# Altium footprint library Motion Controller.PcbLib: 208 footprints (part 3 of 13)
Each footprint in its own frame and in the unit in brackets; x right, y up, seen from the top. Pads: shape width x height; smd on the part's side, far side on the other; paste and mask are expansions set on the pad; w line width, h text height; cw(c..) or ccw(c..) is an arc to the next point about the centre after c.
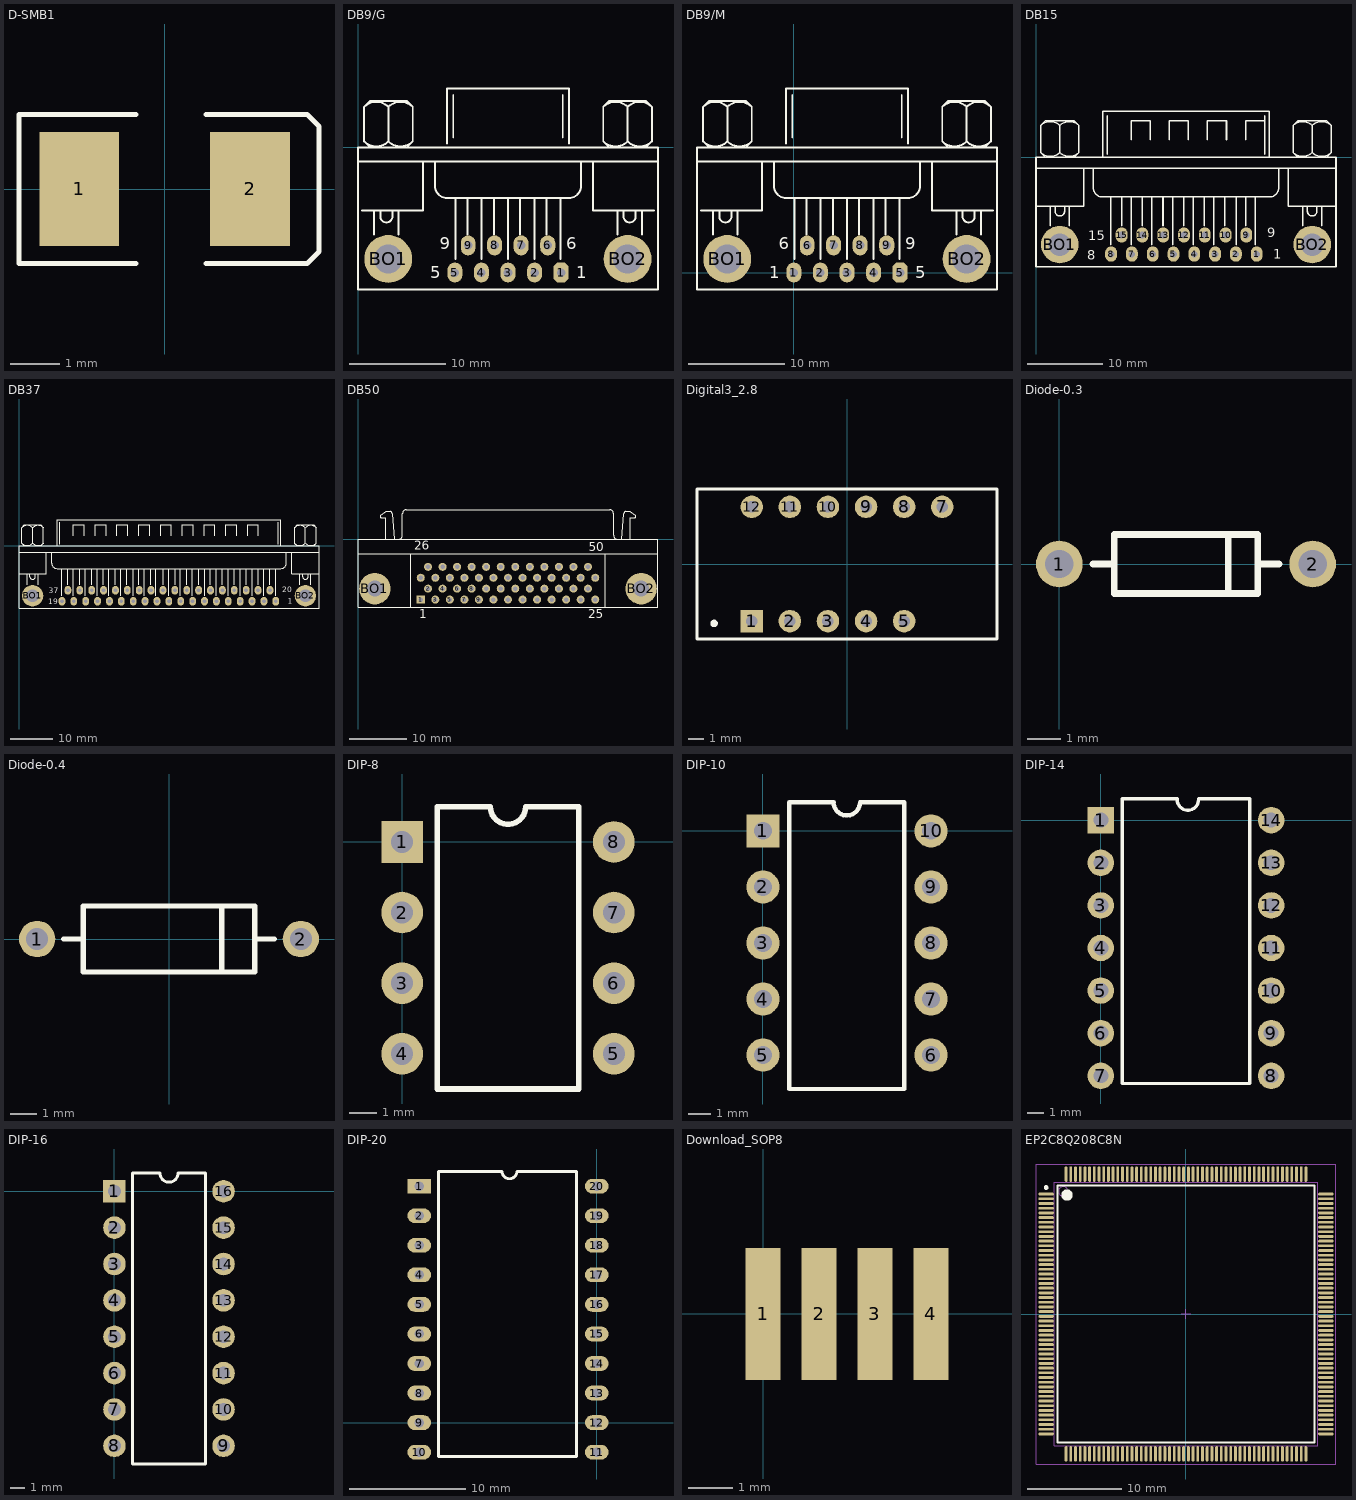
[diagram p2: the footprints below, top view; thin cyan lines are the x and y axes]

## D-SMB1 [mil]
pads (2):
  rect 62.99x90 smd: 1(-67.5,0) 2(67.5,0)
Top Overlay:
  lines w3.94: -22.5,-59.06 -115.16,-59.06 -115.16,59.06 -22.5,59.06 ; 32.5,-59.06 112.5,-59.06 122.05,-49.51 122.05,49.51 112.5,59.06 32.5,59.06

## DB9/G [mil]
pads (11):
  oct 62x82 hole 35: 1(835,-514.17)
  oval 62x82 hole 35: 2(725.83,-514.17) 3(616.67,-514.17) 4(507.5,-514.17) 5(398.33,-514.17) 6(780,-402.5) 7(670.83,-402.5) 8(561.67,-402.5)
  oval 60x82 hole 35: 9(452.5,-402.5)
  round 196.67 hole 118.33: BO1(124.17,-458.33) BO2(1108.33,-458.33)
Top Overlay:
  lines w8: 0,-58.33 1233.33,-58.33 ; 16.67,-258.33 266.67,-258.33 266.67,-58.33 ; 24.91,24.91 ccw(c75,75) 125.09,24.91 ; 24.91,166.75 cw(c75,116.67) 125.09,166.75 ; 50,0 25,25 25,166.67 50,191.67 200,191.67 225,166.67 225,25 200,0 ; 66.67,-358.33 66.67,-258.33 ; 91.67,-258.33 91.67,-283.33 ccw(c116.67,-283.33) 141.67,-283.33 141.67,-258.33 ; 124.91,24.91 ccw(c175,75) 225.09,24.91 ; 124.91,166.75 cw(c175,116.67) 225.09,166.75 ; 125,25 125,166.67 ; 166.67,-358.33 166.67,-258.33 ; 316.67,-58.33 316.67,-158.33 ccw(c366.67,-158.33) 366.67,-208.33 866.67,-208.33 ccw(c866.67,-158.33) 916.67,-158.33 916.67,-58.33 ; 366.67,16.67 366.67,241.67 866.67,241.67 866.67,16.67 ; 391.67,41.67 391.67,216.67 ; 400,-458.33 400,-208.33 ; 450,-358.33 450,-208.33 ; 508.33,-458.33 508.33,-208.33 ; 558.33,-358.33 558.33,-208.33 ; 616.67,-458.33 616.67,-208.33 ; 666.67,-358.33 666.67,-208.33 ; 725,-458.33 725,-208.33 ; 775,-358.33 775,-208.33 ; 833.33,-458.33 833.33,-208.33 ; 841.67,41.67 841.67,216.67 ; 966.67,-58.33 966.67,-258.33 1216.67,-258.33 ; 1008.25,24.91 ccw(c1058.33,75) 1108.42,24.91 ; 1008.25,166.75 cw(c1058.33,116.67) 1108.42,166.75 ; 1033.33,0 1008.33,25 1008.33,166.67 1033.33,191.67 1183.33,191.67 1208.33,166.67 1208.33,25 1183.33,0 ; 1066.67,-358.33 1066.67,-258.33 ; 1091.67,-258.33 1091.67,-283.33 ccw(c1116.67,-283.33) 1141.67,-283.33 1141.67,-258.33 ; 1108.25,24.91 ccw(c1158.33,75) 1208.42,24.91 ; 1108.25,166.75 cw(c1158.33,116.67) 1208.42,166.75 ; 1108.33,25 1108.33,166.67 ; 1166.67,-358.33 1166.67,-258.33 ; 0,-583.33 1233.33,-583.33 1233.33,0 0,0 0,-583.33
  text "6" at 856.67,-418.33 h50
  text "1" at 896.67,-538.33 h50
  text "5" at 296.67,-538.33 h50
  text "9" at 336.67,-418.33 h50

## DB9/M [mil]
pads (11):
  oval 62x82 hole 35: 1(0,0) 2(109.17,0) 3(218.33,0) 4(327.5,0) 7(163.33,111.67) 8(272.5,111.67) 9(381.67,111.67)
  oct 62x82 hole 35: 5(436.67,0)
  oval 60x82 hole 35: 6(54.17,111.67)
  round 196.67 hole 118.33: BO1(-274.17,55.83) BO2(710,55.83)
Top Overlay:
  lines w8: -398.33,455.83 835,455.83 ; -381.67,255.83 -131.67,255.83 -131.67,455.83 ; -373.42,539.08 ccw(c-323.33,589.17) -273.25,539.08 ; -373.42,680.92 cw(c-323.33,630.83) -273.25,680.92 ; -348.33,514.17 -373.33,539.17 -373.33,680.83 -348.33,705.83 -198.33,705.83 -173.33,680.83 -173.33,539.17 -198.33,514.17 ; -331.67,155.83 -331.67,255.83 ; -306.67,255.83 -306.67,230.83 ccw(c-281.67,230.83) -256.67,230.83 -256.67,255.83 ; -273.42,539.08 ccw(c-223.33,589.17) -173.25,539.08 ; -273.42,680.92 cw(c-223.33,630.83) -173.25,680.92 ; -273.33,539.17 -273.33,680.83 ; -231.67,155.83 -231.67,255.83 ; -81.67,455.83 -81.67,355.83 ccw(c-31.67,355.83) -31.67,305.83 468.33,305.83 ccw(c468.33,355.83) 518.33,355.83 518.33,455.83 ; -31.67,530.83 -31.67,755.83 468.33,755.83 468.33,530.83 ; -6.67,555.83 -6.67,730.83 ; 1.67,55.83 1.67,305.83 ; 51.67,155.83 51.67,305.83 ; 110,55.83 110,305.83 ; 160,155.83 160,305.83 ; 218.33,55.83 218.33,305.83 ; 268.33,155.83 268.33,305.83 ; 326.67,55.83 326.67,305.83 ; 376.67,155.83 376.67,305.83 ; 435,55.83 435,305.83 ; 443.33,555.83 443.33,730.83 ; 568.33,455.83 568.33,255.83 818.33,255.83 ; 609.91,539.08 ccw(c660,589.17) 710.09,539.08 ; 609.91,680.92 cw(c660,630.83) 710.09,680.92 ; 635,514.17 610,539.17 610,680.83 635,705.83 785,705.83 810,680.83 810,539.17 785,514.17 ; 668.33,155.83 668.33,255.83 ; 693.33,255.83 693.33,230.83 ccw(c718.33,230.83) 743.33,230.83 743.33,255.83 ; 709.91,539.08 ccw(c760,589.17) 810.09,539.08 ; 709.91,680.92 cw(c760,630.83) 810.09,680.92 ; 710,539.17 710,680.83 ; 768.33,155.83 768.33,255.83 ; -398.33,-69.17 835,-69.17 835,514.17 -398.33,514.17 -398.33,-69.17
  text "9" at 458.33,95.83 h50
  text "5" at 498.33,-24.17 h50
  text "1" at -101.67,-24.17 h50
  text "6" at -61.67,95.83 h50

## DB15 [mil]
pads (17):
  oval 62x80 hole 35: 1(1158.33,-508.33) 2(1049.17,-508.33) 3(940,-508.33) 4(830.83,-508.33) 5(721.67,-508.33) 6(612.5,-508.33) 7(503.33,-508.33) 8(394.17,-508.33) 9(1104.17,-408.33) 10(995,-408.33) 11(885.83,-408.33) 12(776.67,-408.33) 13(667.5,-408.33) 14(558.33,-408.33) 15(449.17,-408.33)
  round 196.67 hole 118.33: BO1(125,-458.33) BO2(1449.8,-458.33)
Top Overlay:
  lines w8: 0,-258.33 250,-258.33 250,-58.33 ; 0,-58.33 1574.8,-58.33 ; 24.91,24.91 ccw(c75,75) 125.09,24.91 ; 24.91,166.75 cw(c75,116.67) 125.09,166.75 ; 50,0 25,25 25,166.67 50,191.67 200,191.67 225,166.67 225,25 200,0 ; 75,-358.33 75,-258.33 ; 100,-258.33 100,-283.33 ccw(c125,-283.33) 150,-283.33 150,-258.33 ; 124.91,24.91 ccw(c175,75) 225.09,24.91 ; 124.91,166.75 cw(c175,116.67) 225.09,166.75 ; 125,25 125,166.67 ; 175,-358.33 175,-258.33 ; 300,-58.33 300,-158.33 ccw(c350,-158.33) 350,-208.33 1224.8,-208.33 ccw(c1224.8,-158.33) 1274.8,-158.33 1274.8,-58.33 ; 350,0 350,241.67 1224.8,241.67 1224.8,0 ; 375,16.67 375,216.67 ; 391.67,-458.33 391.67,-208.33 ; 450,-358.33 450,-208.33 ; 500,-458.33 500,-208.33 ; 500,91.67 500,191.67 600,191.67 600,91.67 ; 558.33,-358.33 558.33,-208.33 ; 608.33,-458.33 608.33,-208.33 ; 666.67,-358.33 666.67,-208.33 ; 700,91.67 700,191.67 800,191.67 800,91.67 ; 716.67,-458.33 716.67,-208.33 ; 775,-358.33 775,-208.33 ; 825,-458.33 825,-208.33 ; 883.33,-358.33 883.33,-208.33 ; 900,91.67 900,191.67 1000,191.67 1000,91.67 ; 933.33,-458.33 933.33,-208.33 ; 991.67,-358.33 991.67,-208.33 ; 1050,-458.33 1050,-208.33 ; 1100,-358.33 1100,-208.33 ; 1100,91.67 1100,191.67 1200,191.67 1200,91.67 ; 1150,-458.33 1150,-208.33 ; 1199.8,16.67 1199.8,216.67 ; 1324.8,-58.33 1324.8,-258.33 1574.8,-258.33 ; 1349.63,166.67 cw(c1399.72,116.58) 1449.8,166.67 1449.8,25 ; 1349.8,25 1349.8,166.67 1374.8,191.67 1524.8,191.67 1549.8,166.67 ; 1374.63,0 1349.63,25 ccw(c1399.72,75.09) 1449.8,25 ; 1399.8,-358.33 1399.8,-258.33 ; 1424.8,-258.33 1424.8,-283.33 ccw(c1449.8,-283.33) 1474.8,-283.33 1474.8,-258.33 ; 1449.63,166.67 cw(c1499.72,116.58) 1549.8,166.67 ; 1499.8,-358.33 1499.8,-258.33 ; 1524.8,0 1549.8,25 1549.8,166.67 ; 1549.98,25 cw(c1499.89,75.09) 1449.8,25 ; 0,-575 0,0 1574.8,0 1574.8,-575 0,-575
  text "15" at 274.76,-434.51 h50
  text "1" at 1244.25,-533.92 h50
  text "8" at 270,-538.33 h50
  text "9" at 1214.72,-419.75 h50

## DB37 [mil]
pads (39):
  oct 62x80 hole 35: 1(2359.17,-508.33)
  oval 62x80 hole 35: 2(2250,-508.33) 3(2140.83,-508.33) 4(2031.67,-508.33) 5(1922.5,-508.33) 6(1813.33,-508.33) 7(1704.17,-508.33) 8(1595,-508.33) 9(1485.83,-508.33) 10(1376.67,-508.33) 11(1267.5,-508.33) 12(1158.33,-508.33) 13(1049.17,-508.33) 14(940,-508.33) 15(830.83,-508.33) 16(721.67,-508.33) 17(612.5,-508.33) 18(503.33,-508.33) 19(394.17,-508.33) 20(2305,-408.33) 21(2195.83,-408.33) 22(2086.67,-408.33) 23(1977.5,-408.33) 24(1868.33,-408.33) 25(1759.17,-408.33) 26(1650,-408.33) 27(1540.83,-408.33) 28(1431.67,-408.33) 29(1322.5,-408.33) 30(1213.33,-408.33) 31(1104.17,-408.33) 32(995,-408.33) 33(885.83,-408.33) 34(776.67,-408.33) 35(667.5,-408.33) 36(558.33,-408.33) 37(449.17,-408.33)
  round 196.67 hole 118.33: BO1(125,-458.33) BO2(2630.91,-458.33)
Top Overlay:
  lines w8: 0,-258.33 250,-258.33 250,-58.33 ; 0,-58.33 2755.91,-58.33 ; 24.91,24.91 ccw(c75,75) 125.09,24.91 ; 24.91,166.75 cw(c75,116.67) 125.09,166.75 ; 50,0 25,25 25,166.67 50,191.67 200,191.67 225,166.67 225,25 200,0 ; 75,-358.33 75,-258.33 ; 100,-258.33 100,-283.33 ccw(c125,-283.33) 150,-283.33 150,-258.33 ; 124.91,24.91 ccw(c175,75) 225.09,24.91 ; 124.91,166.75 cw(c175,116.67) 225.09,166.75 ; 125,25 125,166.67 ; 175,-358.33 175,-258.33 ; 300,-58.33 300,-158.33 ccw(c350,-158.33) 350,-208.33 2405.91,-208.33 ccw(c2405.91,-158.33) 2455.91,-158.33 2455.91,-58.33 ; 350,0 350,241.67 2405.91,241.67 2405.91,0 ; 375,16.67 375,216.67 ; 391.67,-458.33 391.67,-208.33 ; 450,-358.33 450,-208.33 ; 500,-458.33 500,-208.33 ; 500,91.67 500,191.67 600,191.67 600,91.67 ; 558.33,-358.33 558.33,-208.33 ; 608.33,-458.33 608.33,-208.33 ; 666.67,-358.33 666.67,-208.33 ; 700,91.67 700,191.67 800,191.67 800,91.67 ; 716.67,-458.33 716.67,-208.33 ; 775,-358.33 775,-208.33 ; 825,-458.33 825,-208.33 ; 883.33,-358.33 883.33,-208.33 ; 900,91.67 900,191.67 1000,191.67 1000,91.67 ; 933.33,-458.33 933.33,-208.33 ; 991.67,-358.33 991.67,-208.33 ; 1050,-458.33 1050,-208.33 ; 1100,-358.33 1100,-208.33 ; 1100,91.67 1100,191.67 1200,191.67 1200,91.67 ; 1150,-458.33 1150,-208.33 ; 1208.33,-358.33 1208.33,-208.33 ; 1258.33,-458.33 1258.33,-208.33 ; 1300,91.67 1300,191.67 1400,191.67 1400,91.67 ; 1325,-358.33 1325,-208.33 ; 1375,-458.33 1375,-208.33 ; 1433.33,-358.33 1433.33,-208.33 ; 1483.33,-458.33 1483.33,-208.33 ; 1500,91.67 1500,116.67 1500,166.67 1500,191.67 1600,191.67 1600,91.67 ; 1541.67,-358.33 1541.67,-208.33 ; 1591.67,-458.33 1591.67,-208.33 ; 1650,-358.33 1650,-208.33 ; 1700,91.67 1700,191.67 1800,191.67 1800,91.67 ; 1708.33,-458.33 1708.33,-208.33 ; 1759.17,-358.33 1759.17,-208.33 ; 1813.33,-458.33 1813.33,-208.33 ; 1868.33,-358.33 1868.33,-208.33 ; 1900,91.67 1900,193.44 2000,193.44 2000,91.67 ; 1922.5,-458.33 1922.5,-208.33 ; 1977.5,-358.33 1977.5,-208.33 ; 2031.67,-458.33 2031.67,-208.33 ; 2086.67,-358.33 2086.67,-208.33 ; 2100,91.67 2100,191.67 2200,191.67 2200,91.67 ; 2140.83,-458.33 2140.83,-208.33 ; 2195.83,-358.33 2195.83,-208.33 ; 2250,-458.33 2250,-208.33 ; 2305,-358.33 2305,-208.33 ; 2359.17,-458.33 2359.17,-208.33 ; 2380.91,16.67 2380.91,216.67 ; 2505.91,-58.33 2505.91,-258.33 2755.91,-258.33 ; 2530.73,166.67 cw(c2580.82,116.58) 2630.91,166.67 2630.91,25 ; 2530.91,25 2530.91,166.67 2555.91,191.67 2705.91,191.67 2730.91,166.67 ; 2555.73,0 2530.73,25 ccw(c2580.82,75.09) 2630.91,25 ; 2580.91,-358.33 2580.91,-258.33 ; 2605.91,-258.33 2605.91,-283.33 ccw(c2630.91,-283.33) 2655.91,-283.33 2655.91,-258.33 ; 2630.73,166.67 cw(c2680.82,116.58) 2730.91,166.67 ; 2680.91,-358.33 2680.91,-258.33 ; 2705.91,0 2730.91,25 2730.91,166.67 ; 2731.08,25 cw(c2680.99,75.09) 2630.91,25 ; 0,-575 2755.91,-575 2755.91,0 0,0 0,-575
  text "20" at 2418.46,-426.64 h50
  text "19" at 270,-538.33 h50
  text "1" at 2467.68,-529.99 h50
  text "37" at 274.76,-434.51 h50

## DB50 [mm]
pads (52):
  rect 1.4x1.4 hole 0.8: 1(10.96,-10.5)
  round 1.4 hole 0.8: 2(12.23,-8.595) 3(13.5,-10.5) 4(14.77,-8.595) 5(16.04,-10.5) 6(17.31,-8.595) 7(18.58,-10.5) 8(19.85,-8.595) 9(21.12,-10.5) 10(22.39,-8.595) 11(23.66,-10.5) 12(24.93,-8.595) 13(26.2,-10.5) 14(27.47,-8.595) 15(28.74,-10.5) 16(30.01,-8.595) 17(31.28,-10.5) 18(32.55,-8.595) 19(33.82,-10.5) 20(35.09,-8.595) 21(36.36,-10.5) 22(37.63,-8.595) 23(38.9,-10.5) 24(40.17,-8.595) 25(41.44,-10.5) 26(10.96,-6.69) 27(12.23,-4.785) 28(13.5,-6.69) 29(14.77,-4.785) 30(16.04,-6.69) 31(17.31,-4.785) 32(18.58,-6.69) 33(19.85,-4.785) 34(21.12,-6.69) 35(22.39,-4.785) 36(23.66,-6.69) 37(24.93,-4.785) 38(26.2,-6.69) 39(27.47,-4.785) 40(28.74,-6.69) 41(30.01,-4.785) 42(31.28,-6.69) 43(32.55,-4.785) 44(33.82,-6.69) 45(35.09,-4.785) 46(36.36,-6.69) 47(37.63,-4.785) 48(38.9,-6.69) 49(40.17,-4.785) 50(41.44,-6.69)
  round 5.5 hole 2.8: BO1(2.95,-8.595) BO2(49.45,-8.595)
Top Overlay:
  lines w0.2: 0,-2.5 52.4,-2.5 ; 3.985,4.27 4.925,4.898 5.647,4.898 cw(c5.545,4.5) 5.955,4.5 ; 3.999,4.255 ccw(c4.225,4.01) 3.975,3.79 4.855,3.79 4.855,0 ; 5.955,4.52 6.325,0 ; 7.065,0.005 ccw(c7.065,0.7) 7.76,0.7 7.76,4.5 ; 7.765,4.505 cw(c8.46,4.505) 8.46,5.2 43.94,5.2 cw(c43.94,4.505) 44.635,4.505 ; 9.2,-11.8 9.2,-2.58 ; 43.2,-11.8 43.2,-2.5 ; 44.64,4.5 44.64,0.7 ccw(c45.335,0.7) 45.335,0.005 ; 46.075,0 46.445,4.52 ; 46.445,4.5 cw(c46.855,4.5) 46.753,4.898 47.475,4.898 48.415,4.27 ; 47.545,0 47.545,3.79 48.425,3.79 ccw(c48.175,4.01) 48.401,4.255 ; 0,-11.8 52.4,-11.8 52.4,0 0,0 0,-11.8
  text "26" at 9.817,-1.8 h1.5
  text "50" at 40.297,-2.054 h1.5
  text "25" at 40.19,-13.775 h1.5
  text "1" at 10.71,-13.775 h1.5

## Digital3_2.8 [mm]
pads (11):
  rect 1.5x1.5 hole 0.762: 1(-6.35,-3.81)
  round 1.5 hole 0.762: 2(-3.81,-3.81) 3(-1.27,-3.81) 4(1.27,-3.81) 5(3.81,-3.81) 7(6.35,3.81) 8(3.81,3.81) 9(1.27,3.81) 10(-1.27,3.81) 11(-3.81,3.81) 12(-6.35,3.81)
Top Overlay:
  circle w0.25: c-8.865,-3.962 r0.125
  lines w0.2: -10,-5 10,-5 10,5 -10,5 -10,-5

## Diode-0.3 [mm]
pads (2):
  round 1.4 hole 0.85: 1(0,0) 2(7.62,0)
Top Overlay:
  lines w0.2: 1.016,0 1.651,0 ; 5.08,-0.889 5.08,0.889 ; 6.096,0 6.604,0 ; 1.651,-0.889 1.651,0.889 5.969,0.889 5.969,-0.889 1.651,-0.889

## Diode-0.4 [mm]
pads (2):
  round 1.4 hole 0.85: 1(-5.08,0) 2(5.08,0)
Top Overlay:
  lines w0.2: -4.064,0 -3.302,0 ; 2.032,-1.27 2.032,1.27 ; 3.302,0 4.064,0 ; -3.302,-1.27 3.302,-1.27 3.302,1.27 -3.302,1.27 -3.302,-1.27

## DIP-8 [mm]
pads (8):
  rect 1.5x1.5 hole 0.8: 1(0,0)
  round 1.5 hole 0.8: 2(0,-2.54) 3(0,-5.08) 4(0,-7.62) 5(7.62,-7.62) 6(7.62,-5.08) 7(7.62,-2.54) 8(7.62,0)
Top Overlay:
  lines w0.2: 1.27,-8.89 6.35,-8.89 6.35,1.27 4.445,1.27 cw(c3.81,1.27) 3.175,1.27 1.27,1.27 1.27,-8.89

## DIP-10 [mm]
pads (10):
  rect 1.5x1.5 hole 0.8: 1(0,0)
  round 1.5 hole 0.8: 2(0,-2.54) 3(0,-5.08) 4(0,-7.62) 5(0,-10.16) 6(7.62,-10.16) 7(7.62,-7.62) 8(7.62,-5.08) 9(7.62,-2.54) 10(7.62,0)
Top Overlay:
  lines w0.2: 1.2,-11.7 6.4,-11.7 6.4,1.3 4.4,1.3 cw(c3.8,1.3) 3.2,1.3 1.2,1.3 1.2,-11.7

## DIP-14 [mil]
pads (14):
  rect 62x62 hole 35: 1(0,0)
  round 62 hole 35: 2(0,-100) 3(0,-200) 4(0,-300) 5(0,-400) 6(0,-500) 7(0,-600) 8(400,-600) 9(400,-500) 10(400,-400) 11(400,-300) 12(400,-200) 13(400,-100) 14(400,0)
Top Overlay:
  lines w7.87: 179.33,48.23 ccw(c204.33,48.23) 229.33,48.23 ; 179.33,50 50,50 50,-618.11 350,-618.11 350,50 229.33,50

## DIP-16 [mil]
pads (16):
  rect 62x62 hole 35: 1(0,0)
  round 62 hole 35: 2(0,-100) 3(0,-200) 4(0,-300) 5(0,-400) 6(0,-500) 7(0,-600) 8(0,-700) 9(300,-700) 10(300,-600) 11(300,-500) 12(300,-400) 13(300,-300) 14(300,-200) 15(300,-100) 16(300,0)
Top Overlay:
  lines w7.87: 50,-750 250,-750 250,50 175,50 cw(c150,50) 125,50 50,50 50,-750

## DIP-20 [mil]
pads (20):
  rect 80x50 hole 32: 1(-600.39,800)
  oval 80x50 hole 32: 2(-600.39,700) 3(-600.39,600) 4(-600.39,500) 5(-600.39,400) 6(-600.39,300) 7(-600.39,200) 8(-600.39,100) 9(-600.39,0) 10(-600.39,-100) 11(0,-100) 12(0,0) 13(0,100) 14(0,200) 15(0,300) 16(0,400) 17(0,500) 18(0,600) 19(0,700) 20(0,800)
Top Overlay:
  lines w10: -535.39,-115.35 -68.9,-115.35 -68.9,850 -270.28,850 cw(c-295.28,850) -320.28,850 -535.39,850 -535.39,-115.35

## Download_SOP8 [mm]
pads (4):
  rect 0.8x3 smd: 1(0,0) 2(1.27,0) 3(2.54,0) 4(3.81,0)

## EP2C8Q208C8N [mm] "SQFP, 208-Leads, Body 30.6x30.6mm (max), Pitch 0.50mm, IPC Medium Density"
height 4.1
pads (208):
  oval 1.65x0.3 smd: 1(-14.875,12.75) 2(-14.875,12.25) 3(-14.875,11.75) 4(-14.875,11.25) 5(-14.875,10.75) 6(-14.875,10.25) 7(-14.875,9.75) 8(-14.875,9.25) 9(-14.875,8.75) 10(-14.875,8.25) 11(-14.875,7.75) 12(-14.875,7.25) 13(-14.875,6.75) 14(-14.875,6.25) 15(-14.875,5.75) 16(-14.875,5.25) 17(-14.875,4.75) 18(-14.875,4.25) 19(-14.875,3.75) 20(-14.875,3.25) 21(-14.875,2.75) 22(-14.875,2.25) 23(-14.875,1.75) 24(-14.875,1.25) 25(-14.875,0.75) 26(-14.875,0.25) 27(-14.875,-0.25) 28(-14.875,-0.75) 29(-14.875,-1.25) 30(-14.875,-1.75) 31(-14.875,-2.25) 32(-14.875,-2.75) 33(-14.875,-3.25) 34(-14.875,-3.75) 35(-14.875,-4.25) 36(-14.875,-4.75) 37(-14.875,-5.25) 38(-14.875,-5.75) 39(-14.875,-6.25) 40(-14.875,-6.75) 41(-14.875,-7.25) 42(-14.875,-7.75) 43(-14.875,-8.25) 44(-14.875,-8.75) 45(-14.875,-9.25) 46(-14.875,-9.75) 47(-14.875,-10.25) 48(-14.875,-10.75) 49(-14.875,-11.25) 50(-14.875,-11.75) 51(-14.875,-12.25) 52(-14.875,-12.75) 105(14.875,-12.75) 106(14.875,-12.25) 107(14.875,-11.75) 108(14.875,-11.25) 109(14.875,-10.75) 110(14.875,-10.25) 111(14.875,-9.75) 112(14.875,-9.25) 113(14.875,-8.75) 114(14.875,-8.25) 115(14.875,-7.75) 116(14.875,-7.25) 117(14.875,-6.75) 118(14.875,-6.25) 119(14.875,-5.75) 120(14.875,-5.25) 121(14.875,-4.75) 122(14.875,-4.25) 123(14.875,-3.75) 124(14.875,-3.25) 125(14.875,-2.75) 126(14.875,-2.25) 127(14.875,-1.75) 128(14.875,-1.25) 129(14.875,-0.75) 130(14.875,-0.25) 131(14.875,0.25) 132(14.875,0.75) 133(14.875,1.25) 134(14.875,1.75) 135(14.875,2.25) 136(14.875,2.75) 137(14.875,3.25) 138(14.875,3.75) 139(14.875,4.25) 140(14.875,4.75) 141(14.875,5.25) 142(14.875,5.75) 143(14.875,6.25) 144(14.875,6.75) 145(14.875,7.25) 146(14.875,7.75) 147(14.875,8.25) 148(14.875,8.75) 149(14.875,9.25) 150(14.875,9.75) 151(14.875,10.25) 152(14.875,10.75) 153(14.875,11.25) 154(14.875,11.75) 155(14.875,12.25) 156(14.875,12.75)
  oval 0.3x1.65 smd: 53(-12.75,-14.875) 54(-12.25,-14.875) 55(-11.75,-14.875) 56(-11.25,-14.875) 57(-10.75,-14.875) 58(-10.25,-14.875) 59(-9.75,-14.875) 60(-9.25,-14.875) 61(-8.75,-14.875) 62(-8.25,-14.875) 63(-7.75,-14.875) 64(-7.25,-14.875) 65(-6.75,-14.875) 66(-6.25,-14.875) 67(-5.75,-14.875) 68(-5.25,-14.875) 69(-4.75,-14.875) 70(-4.25,-14.875) 71(-3.75,-14.875) 72(-3.25,-14.875) 73(-2.75,-14.875) 74(-2.25,-14.875) 75(-1.75,-14.875) 76(-1.25,-14.875) 77(-0.75,-14.875) 78(-0.25,-14.875) 79(0.25,-14.875) 80(0.75,-14.875) 81(1.25,-14.875) 82(1.75,-14.875) 83(2.25,-14.875) 84(2.75,-14.875) 85(3.25,-14.875) 86(3.75,-14.875) 87(4.25,-14.875) 88(4.75,-14.875) 89(5.25,-14.875) 90(5.75,-14.875) 91(6.25,-14.875) 92(6.75,-14.875) 93(7.25,-14.875) 94(7.75,-14.875) 95(8.25,-14.875) 96(8.75,-14.875) 97(9.25,-14.875) 98(9.75,-14.875) 99(10.25,-14.875) 100(10.75,-14.875) 101(11.25,-14.875) 102(11.75,-14.875) 103(12.25,-14.875) 104(12.75,-14.875) 157(12.75,14.875) 158(12.25,14.875) 159(11.75,14.875) 160(11.25,14.875) 161(10.75,14.875) 162(10.25,14.875) 163(9.75,14.875) 164(9.25,14.875) 165(8.75,14.875) 166(8.25,14.875) 167(7.75,14.875) 168(7.25,14.875) 169(6.75,14.875) 170(6.25,14.875) 171(5.75,14.875) 172(5.25,14.875) 173(4.75,14.875) 174(4.25,14.875) 175(3.75,14.875) 176(3.25,14.875) 177(2.75,14.875) 178(2.25,14.875) 179(1.75,14.875) 180(1.25,14.875) 181(0.75,14.875) 182(0.25,14.875) 183(-0.25,14.875) 184(-0.75,14.875) 185(-1.25,14.875) 186(-1.75,14.875) 187(-2.25,14.875) 188(-2.75,14.875) 189(-3.25,14.875) 190(-3.75,14.875) 191(-4.25,14.875) 192(-4.75,14.875) 193(-5.25,14.875) 194(-5.75,14.875) 195(-6.25,14.875) 196(-6.75,14.875) 197(-7.25,14.875) 198(-7.75,14.875) 199(-8.25,14.875) 200(-8.75,14.875) 201(-9.25,14.875) 202(-9.75,14.875) 203(-10.25,14.875) 204(-10.75,14.875) 205(-11.25,14.875) 206(-11.75,14.875) 207(-12.25,14.875) 208(-12.75,14.875)
Top Overlay:
  circle w0.25: c-14.875,13.45 r0.125
  circle w0.6: c-12.65,12.65 r0.3
  lines w0.2: -13.65,-13.65 -13.65,13.65 13.65,13.65 13.65,-13.65 -13.65,-13.65
Mechanical 13:
  circle w0.1: c-13.05,13.05 r0.5
  lines w0.1: -14,-14 -14,14 14,14 14,-14 -14,-14
Mechanical 15:
  lines w0.1: -0.5,0 0.5,0 ; 0,-0.5 0,0.5 ; -15.95,-15.95 -15.95,15.95 15.95,15.95 15.95,-15.95 -15.95,-15.95
3D body: height 4.1, standoff 0.25, extent -14,-14 14,14